# EAGLE library part BERRYGPSV4 (library berrygpsv4)
BerryGPS-IMU v4 has been designed to fit perfectly with the Raspberry Pi Zero. It is also compatible with all other versions of the Raspberry Pi and Arduino.
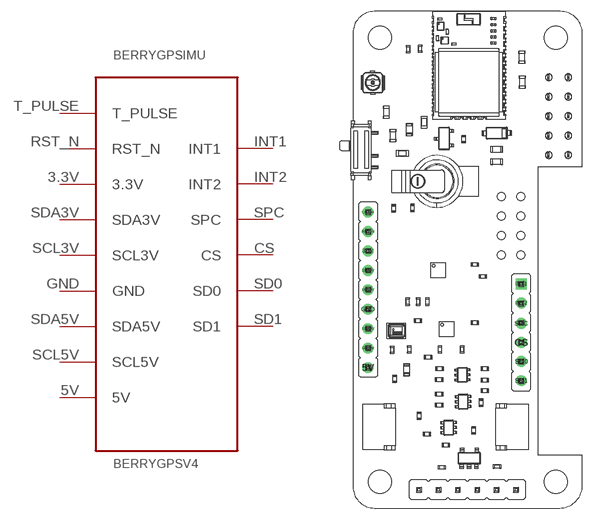
[diagram p0: symbol with the pads of BERRYGPSV4; footprint BERRYGPSV4]

Designator prefix BERRYGPSIMU

## BERRYGPSV4  [BERRYGPSV4]
3.3V  3.3V
5V  5V
CS  CS
GND  GND
INT1  INT1
INT2  INT2
RST_N  RST_N
SCL3V  SCL3V
SCL5V  SCL5V
SD0  SD0
SD1  SD1
SDA3V  SDA3V
SDA5V  SDA5V
SPC  SPC
T_PULSE  T_PULSE

## Footprint BERRYGPSV4 (pad centres in mm)
drill 0.9: 3.3V 137.668,-50.8; 5V 137.668,-66.04; CS 157.709,-62.763; GND 137.668,-58.42; INT2 157.709,-57.607; RST_N 137.668,-48.26; SCL3V 137.668,-55.88; SCL5V 137.668,-63.5; SD0 157.709,-65.253; SD1 157.709,-67.742; SDA3V 137.668,-53.34; SDA5V 137.668,-60.96; SPC 157.709,-60.274; T_PULSE 137.668,-45.72
drill 0.9 square: INT1 157.709,-55.118